# Altium schematic symbol library Fuses.SchLib: 2 symbols
Pins are listed as number, name and electrical type; pins without a type are passive.

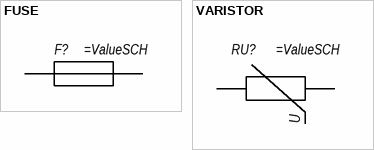
[diagram p0: symbols FUSE to VARISTOR]

## FUSE
designator F?
pins: 1, 2

## VARISTOR
designator RU?
pins: 1, 2
text: U